# Altium integrated library PZ-WM8978.IntLib: 10 symbols
Pins are listed as number, name and electrical type; pins without a type are passive.

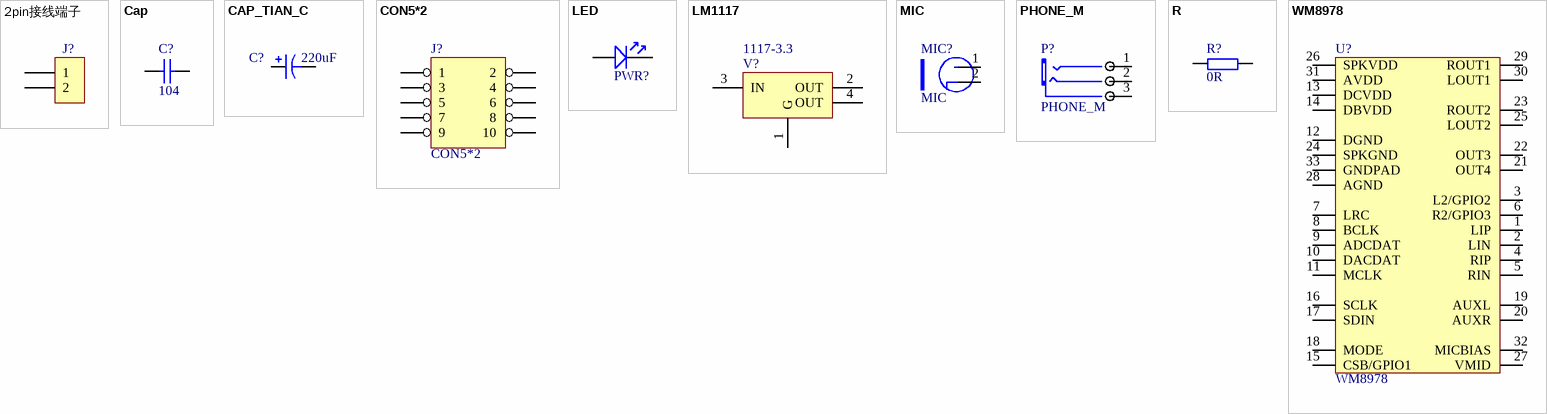
[diagram p0: symbols 2pin接线端子 to WM8978]

## 2pin接线端子
designator J?  (value not drawn)
footprint SIP2
footprint SIP2
pins: 1, 2

## Cap
designator C?, comment value 104  (hidden comment: Cap104)
Capacitor; Published: 8-Jun-2000; LatestRevisionDate: 17-Jul-2002; LatestRevisionNote: Re-released for DXP Platform.; PackageReference: RAD-0.3; Publisher: Altium Limited
simulation model CAP (Capacitor)
signal-integrity model Cap
footprint 0603
pins: 1, 2

## CAP_TIAN_C
designator C?, comment 220uF
footprint CC6 (铝制电容贴片)
pins: 1, 2

## CON5*2
designator J?
footprint SIP2*5
footprint SIP2*5
pins: 1, 2, 3, 4, 5, 6, 7, 8, 9, 10

## LED
designator PWR?  (value not drawn)
footprint LED-DIP (PIN:2.54MM;H:5MM;)
footprint SMDLED-0603 (0603)
footprint SMDLED-0805 (0805)
pins: 1, 2

## LM1117
designator V?, comment 1117-3.3
LINER REG
footprint SOT261
pins: 1 G, 2 OUT, 3 IN, 4 OUT
2 alternate drawings of the same symbol

## MIC
designator MIC?
footprint MIC
footprint MIC
footprint MIC
pins: 1 VCC, 2 GND
1 alternate drawing of the same symbol

## PHONE_M
designator P?
footprint PHONE_ST
footprint PHONE-D
footprint PHONE-D
footprint PHONE_ST
pins: 1 CHL, 2 CHR, 3 COM

## R
designator R?, comment 0R
footprint 0603
pins: 1, 2

## WM8978
designator U?
24bit ADC&DAC
footprint qfn32
pins: 1 LIP, 2 LIN, 3 L2/GPIO2, 4 RIP, 5 RIN, 6 R2/GPIO3, 7 LRC, 8 BCLK, 9 ADCDAT, 10 DACDAT, 11 MCLK, 12 DGND, 13 DCVDD, 14 DBVDD, 15 CSB/GPIO1, 16 SCLK, 17 SDIN, 18 MODE, 19 AUXL, 20 AUXR, 21 OUT4, 22 OUT3, 23 ROUT2, 24 SPKGND, 25 LOUT2, 26 SPKVDD, 27 VMID, 28 AGND, 29 ROUT1, 30 LOUT1, 31 AVDD, 32 MICBIAS, 33 GNDPAD